# Altium footprint library PCB - CONNECTOR - MISC - CNC TECH 3221-10-0300-00.PCBLIB: 1 footprints
Each footprint in its own frame and in the unit in brackets; x right, y up, seen from the top. Pads: shape width x height; smd on the part's side, far side on the other; paste and mask are expansions set on the pad; w line width, h text height; cw(c..) or ccw(c..) is an arc to the next point about the centre after c.
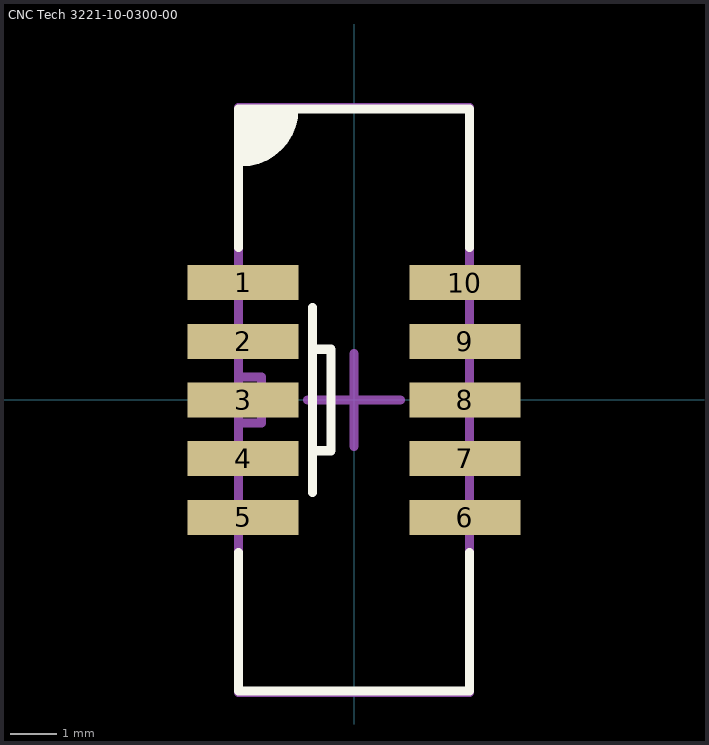
[diagram p0: the footprint, top view; thin cyan lines are the x and y axes]

## CNC Tech 3221-10-0300-00 [mm]
height 5.6
pads (10):
  rect 2.4x0.76 smd: 1(-2.4,2.54) 2(-2.4,1.27) 3(-2.4,0) 4(-2.4,-1.27) 5(-2.4,-2.54) 6(2.4,-2.54) 7(2.4,-1.27) 8(2.4,0) 9(2.4,1.27) 10(2.4,2.54)
Top Overlay:
  region: -1.3,6.3 -1.3,5.9 -2.05,5.15 -2.45,5.15 -2.45,6.25 -2.5,6.3
  lines w0.2: -2.5,-3.3 -2.5,-6.3 2.5,-6.3 2.5,-3.3 ; -2.5,3.3 -2.5,6.3 ; -2.5,5.15 -2.45,5.15 ccw(c-2.45,6.3) -1.3,6.3 ; -2.3,6.3 -2.5,6.3 ; -0.9,-2 -0.9,-1.1 ; -0.9,2 -0.9,1.1 ; 2.5,3.3 2.5,6.3 -2.5,6.3 ; -0.9,-1.1 -0.9,1.1 ; -0.9,-1.1 -0.5,-1.1 -0.5,1.1 -0.9,1.1
Mechanical 1:
  lines w0.2: -2.45,-0.5 -2,-0.5 -2,0 -2,0.5 -2.45,0.5 ; -2.5,-6.325 -2.5,6.325 2.5,6.325 2.5,-6.325 -2.5,-6.325
Mechanical 15:
  lines w0.2: -1,0 1,0 ; 0,-1 0,1
3D body "CNC Tech 3221-10-0300-00.STEP": height 5.6, standoff 0, extent -2.75,-6.325 2.75,6.325